# Altium footprint library Parafusos.PcbLib: 2 footprints
Each footprint in its own frame and in the unit in brackets; x right, y up, seen from the top. Pads: shape width x height; smd on the part's side, far side on the other; paste and mask are expansions set on the pad; w line width, h text height; cw(c..) or ccw(c..) is an arc to the next point about the centre after c.
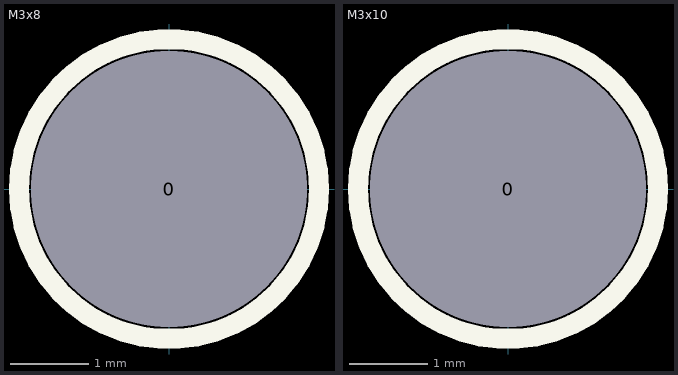
[diagram p0: the footprints below, top view; thin cyan lines are the x and y axes]

## M3x8 [mm]
pads (1):
  round 3.5 hole 3.5 unplated mask+0: 0(0,0)
Top Overlay:
  circle w0.254: c0,0 r1.905
3D body "M3 x 0.5mm Thread 8mm LONG SOCKET HEAD CAP SCREW.STEP": height 3, standoff -8, extent -2.75,-2.75 2.75,2.75

## M3x10 [mm]
pads (1):
  round 3.5 hole 3.5 unplated mask+0: 0(0,0)
Top Overlay:
  circle w0.254: c0,0 r1.905
3D body "M3 x 0.5mm Thread 10mm LONG SOCKET HEAD CAP SCREW.STEP": height 3, standoff -10, extent -2.75,-2.75 2.75,2.75